# Altium schematic symbol library TPS62A01.SchLib: 1 symbol
Pins are listed as number, name and electrical type; pins without a type are passive.

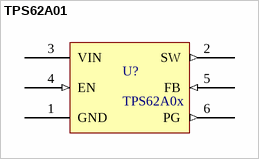
[diagram p0: symbol TPS62A01]

## TPS62A01
designator U?, comment TPS62A0x
pins: 1 GND, 2 SW (out), 3 VIN (power), 4 EN (in), 5 FB (in), 6 PG (out)